# Altium integrated library Module.IntLib: 1 symbol
Pins are listed as number, name and electrical type; pins without a type are passive.

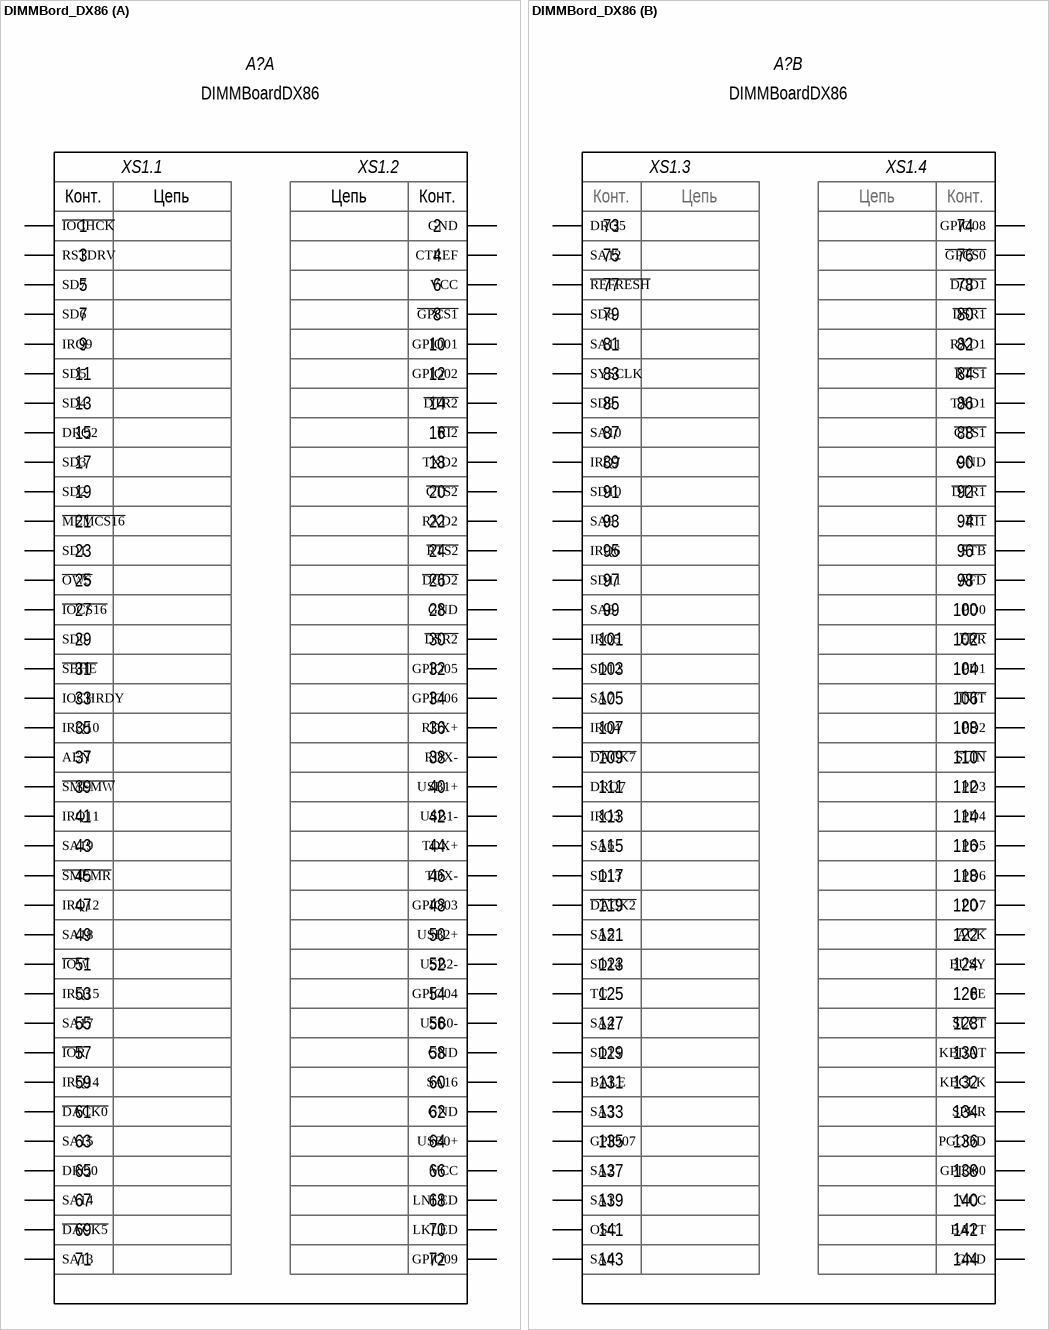
[diagram p0: symbol DIMMBord_DX86]

## DIMMBord_DX86
designator A?, comment value DIMMBoardDX86  (hidden comment: SO-DIMM 144 lead Connector)
Manufacturer: B-Plus; HelpURL: *
footprint SODIMM_144 (SODIMM 144 pin, Surface Mount)
part A pins: 1 ~{IOCHCK}, 2 GND, 3 RSTDRV, 4 CTREF, 5 SD7, 6 VCC, 7 SD6, 8 ~{GPCS1}, 9 IRQ9, 10 GPIO01, 11 SD5, 12 GPIO02, 13 SD4, 14 ~{DTR2}, 15 DRQ2, 16 ~{RI2}, 17 SD3, 18 TXD2, 19 SD2, 20 ~{CTS2}, 21 ~{MEMCS16}, 22 RXD2, 23 SD1, 24 ~{RTS2}, 25 ~{OWS}, 26 ~{DCD2}, 27 ~{IOCS16}, 28 GND, 29 SD0, 30 ~{DSR2}, 31 ~{SBHE}, 32 GPIO05, 33 IOCHRDY, 34 GPIO06, 35 IRQ10, 36 RDX+, 37 AEN, 38 RDX-, 39 ~{SMEMW}, 40 USB1+, 41 IRQ11, 42 USB1-, 43 SA19, 44 TDX+, 45 ~{SMEMR}, 46 TDX-, 47 IRQ12, 48 GPIO03, 49 SA18, 50 USB2+, 51 ~{IOW}, 52 USB2-, 53 IRQ15, 54 GPIO04, 55 SA17, 56 USB0-, 57 ~{IOR}, 58 GND, 59 IRQ14, 60 SA16, 61 ~{DACK0}, 62 GND, 63 SA15, 64 USB0+, 65 DRQ0, 66 VCC, 67 SA14, 68 LNLED, 69 ~{DACK5}, 70 LKLED, 71 SA13, 72 GPIO09
part B pins: 73 DRQ5, 74 GPIO08, 75 SA12, 76 ~{GPCS0}, 77 ~{REFRESH}, 78 ~{DCD1}, 79 SD8, 80 ~{DSR1}, 81 SA11, 82 RXD1, 83 SYSCLK, 84 ~{RTS1}, 85 SD9, 86 TXD1, 87 SA10, 88 ~{CTS1}, 89 IRQ7, 90 GND, 91 SD10, 92 ~{DTR1}, 93 SA9, 94 ~{RI1}, 95 IRQ6, 96 ~{STB}, 97 SD11, 98 ~{AFD}, 99 SA8, 100 PD0, 101 IRQ5, 102 ~{ERR}, 103 SD12, 104 PD1, 105 SA7, 106 ~{INIT}, 107 IRQ4, 108 PD2, 109 ~{DACK7}, 110 ~{SLIN}, 111 DRQ7, 112 PD3, 113 IRQ3, 114 PD4, 115 SA6, 116 PD5, 117 SD13, 118 PD6, 119 ~{DACK2}, 120 PD7, 121 SA5, 122 ~{ACK}, 123 SD14, 124 BUSY, 125 TC, 126 PE, 127 SA4, 128 ~{SLCT}, 129 SD15, 130 KBDAT, 131 BALE, 132 KBCLK, 133 SA3, 134 SPKR, 135 GPIO07, 136 PGOOD, 137 SA2, 138 GPIO00, 139 SA1, 140 VCC, 141 OSC, 142 BATT, 143 SA0, 144 GND
part A text: XS1.1; XS1.2; Конт.; Цепь
part B text: XS1.3; XS1.4; Конт.; Цепь